# Altium schematic symbol library EQ25LP_PLT.SchLib: 1 symbol
Pins are listed as number, name and electrical type; pins without a type are passive.

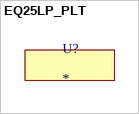
[diagram p0: symbol EQ25LP_PLT]

## EQ25LP_PLT
designator U?